# Altium schematic symbol library Schlib.SchLib: 3 symbols
Pins are listed as number, name and electrical type; pins without a type are passive.

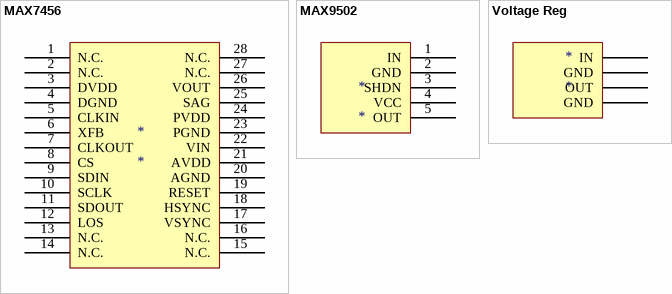
[diagram p0: symbols MAX7456 to Voltage Reg]

## MAX7456
designator *
pins: 1 N.C., 2 N.C., 3 DVDD, 4 DGND, 5 CLKIN, 6 XFB, 7 CLKOUT, 8 CS, 9 SDIN, 10 SCLK, 11 SDOUT, 12 LOS, 13 N.C., 14 N.C., 15 N.C., 16 N.C., 17 VSYNC, 18 HSYNC, 19 RESET, 20 AGND, 21 AVDD, 22 VIN, 23 PGND, 24 PVDD, 25 SAG, 26 VOUT, 27 N.C., 28 N.C.

## MAX9502
designator *
pins: 1 IN, 2 GND, 3 SHDN, 4 VCC, 5 OUT

## Voltage Reg
designator *
pins: 1 IN, 2 GND, 3 OUT, 4 GND